# Altium footprint library P090S.PcbLib: 1 footprints
Each footprint in its own frame and in the unit in brackets; x right, y up, seen from the top. Pads: shape width x height; smd on the part's side, far side on the other; paste and mask are expansions set on the pad; w line width, h text height; cw(c..) or ccw(c..) is an arc to the next point about the centre after c.
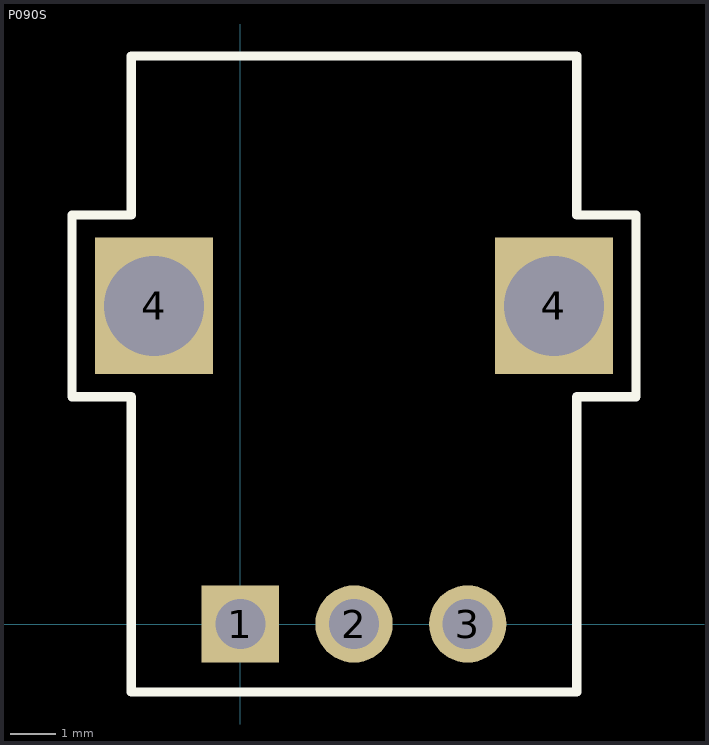
[diagram p0: the footprint, top view; thin cyan lines are the x and y axes]

## P090S [mm] "Potentiometer, P090S"
pads (5):
  rect 1.7x1.7 hole 1.1: 1(0,0)
  round 1.7 hole 1.1: 2(2.5,0) 3(5,0)
  rect 2.6x3 hole 2.2 square: 4(-1.9,7) 4(6.9,7)
Top Overlay:
  lines w0.2: -3.7,5 -2.4,5 -2.4,-1.5 7.4,-1.5 7.4,5 8.7,5 8.7,9 7.4,9 7.4,12.5 -2.4,12.5 -2.4,9 -3.7,9 -3.7,5
3D body "p090s-04t15ar.stp": height 14.86, standoff -3.6, extent -3.428,-0.25 8.286,12.5